# Altium footprint library Capacitor_THT.PcbLib: 378 footprints (part 13 of 24)
Each footprint in its own frame and in the unit in brackets; x right, y up, seen from the top. Pads: shape width x height; smd on the part's side, far side on the other; paste and mask are expansions set on the pad; w line width, h text height; cw(c..) or ccw(c..) is an arc to the next point about the centre after c.
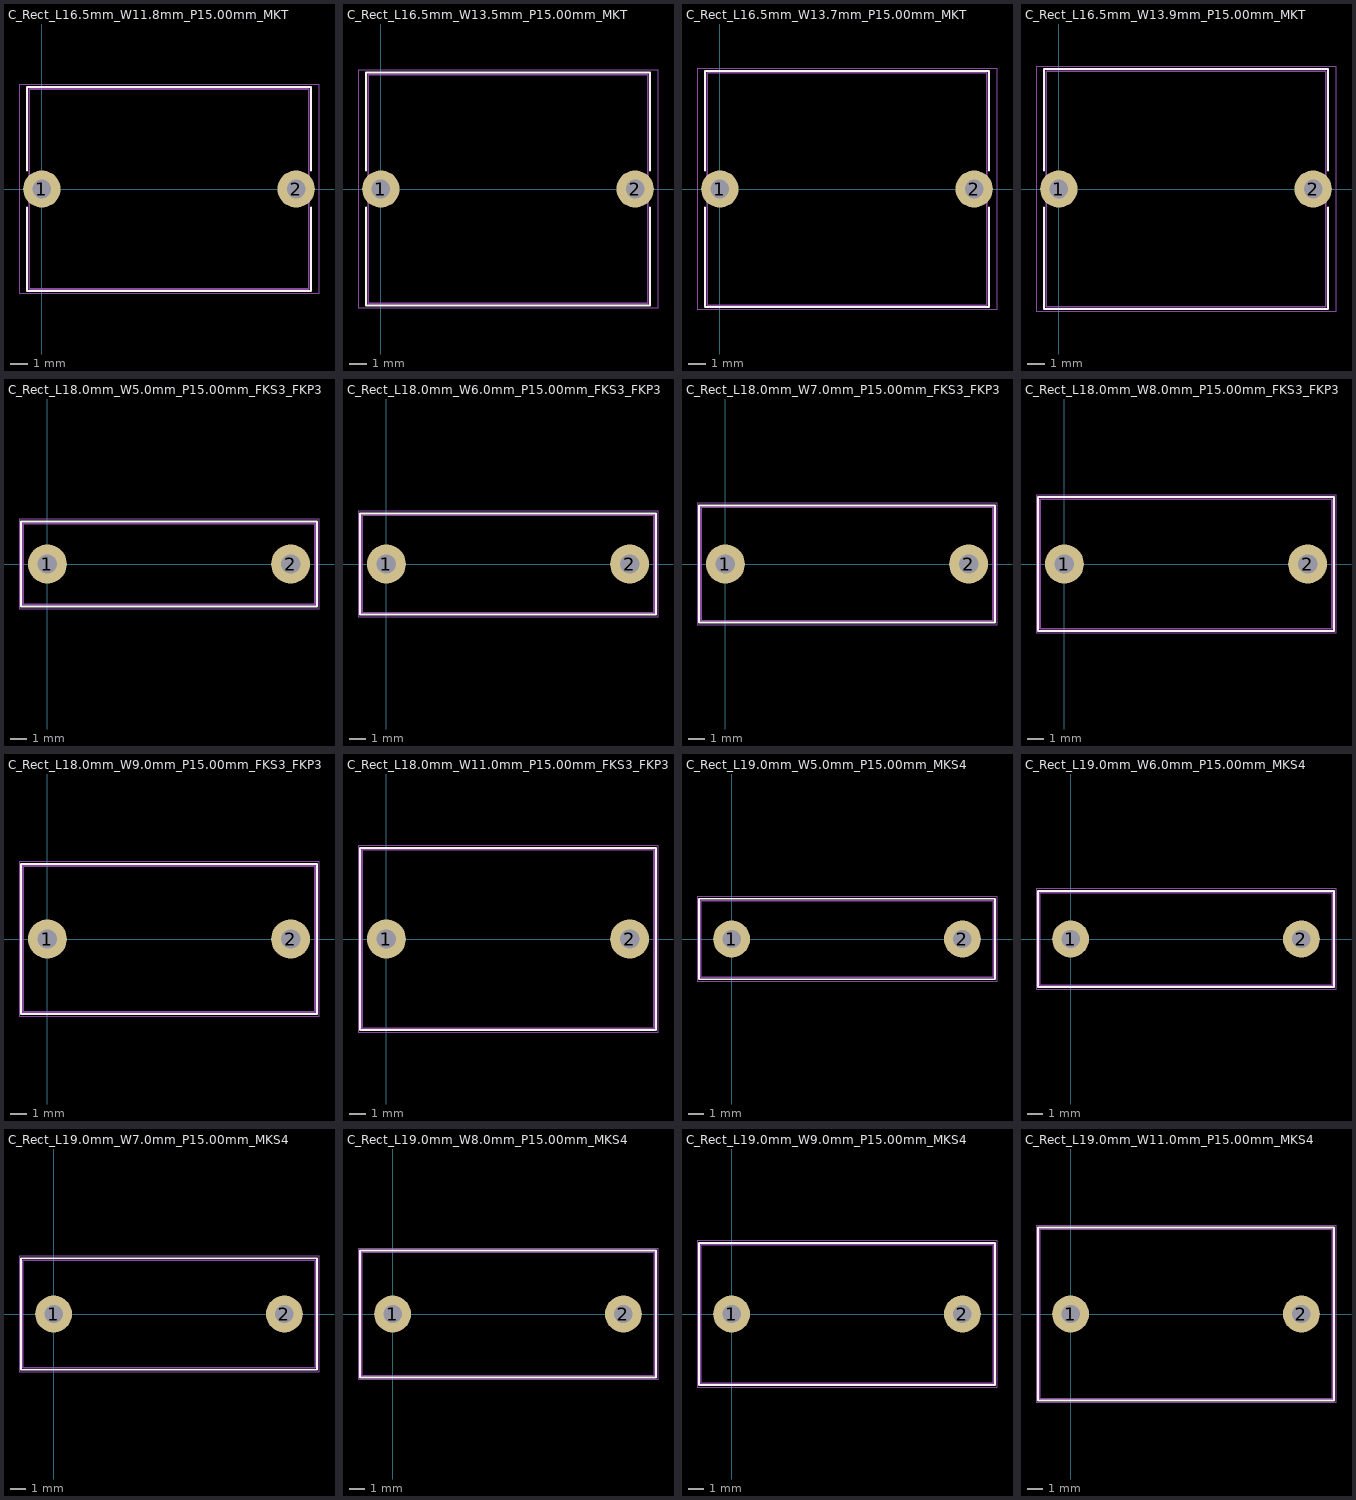
[diagram p12: the footprints below, top view; thin cyan lines are the x and y axes]

## C_Rect_L16.5mm_W11.8mm_P15.00mm_MKT [mm]
pads (2):
  round 2.2 hole 1.1: 1(0,0) 2(15,0)
F.SilkS:
  lines w0.12: -0.87,-1.104 -0.87,-6.02 15.87,-6.02 15.87,-1.104 ; -0.87,1.104 -0.87,6.02 15.87,6.02 15.87,1.104
F.CrtYd:
  lines w0.05: -1.35,-6.15 -1.35,6.15 16.35,6.15 16.35,-6.15 -1.35,-6.15
F.Fab:
  lines w0.1: -0.75,-5.9 15.75,-5.9 15.75,5.9 -0.75,5.9 -0.75,-5.9
  text "'.Designator'" at 3.453,-0.84 h1

## C_Rect_L16.5mm_W13.5mm_P15.00mm_MKT [mm]
pads (2):
  round 2.2 hole 1.1: 1(0,0) 2(15,0)
F.SilkS:
  lines w0.12: -0.87,-1.104 -0.87,-6.87 15.87,-6.87 15.87,-1.104 ; -0.87,1.104 -0.87,6.87 15.87,6.87 15.87,1.104
F.CrtYd:
  lines w0.05: -1.35,-7 -1.35,7 16.35,7 16.35,-7 -1.35,-7
F.Fab:
  lines w0.1: -0.75,-6.75 15.75,-6.75 15.75,6.75 -0.75,6.75 -0.75,-6.75
  text "'.Designator'" at 3.453,-0.84 h1

## C_Rect_L16.5mm_W13.7mm_P15.00mm_MKT [mm]
pads (2):
  round 2.2 hole 1.1: 1(0,0) 2(15,0)
F.SilkS:
  lines w0.12: -0.87,-1.104 -0.87,-6.97 15.87,-6.97 15.87,-1.104 ; -0.87,1.104 -0.87,6.97 15.87,6.97 15.87,1.104
F.CrtYd:
  lines w0.05: -1.35,-7.1 16.35,-7.1 16.35,7.1 -1.35,7.1 -1.35,-7.1
F.Fab:
  lines w0.1: -0.75,-6.85 -0.75,6.85 15.75,6.85 15.75,-6.85 -0.75,-6.85
  text "'.Designator'" at 3.453,-0.84 h1

## C_Rect_L16.5mm_W13.9mm_P15.00mm_MKT [mm]
pads (2):
  round 2.2 hole 1.1: 1(0,0) 2(15,0)
F.SilkS:
  lines w0.12: -0.87,-1.104 -0.87,-7.07 15.87,-7.07 15.87,-1.104 ; -0.87,1.104 -0.87,7.07 15.87,7.07 15.87,1.104
F.CrtYd:
  lines w0.05: -1.35,-7.2 -1.35,7.2 16.35,7.2 16.35,-7.2 -1.35,-7.2
F.Fab:
  lines w0.1: -0.75,-6.95 15.75,-6.95 15.75,6.95 -0.75,6.95 -0.75,-6.95
  text "'.Designator'" at 3.453,-0.84 h1

## C_Rect_L18.0mm_W5.0mm_P15.00mm_FKS3_FKP3 [mm]
pads (2):
  round 2.4 hole 1.2: 1(0,0) 2(15,0)
F.SilkS:
  lines w0.12: -1.62,-2.62 16.62,-2.62 16.62,2.62 -1.62,2.62 -1.62,-2.62
F.CrtYd:
  lines w0.05: -1.75,-2.75 -1.75,2.75 16.75,2.75 16.75,-2.75 -1.75,-2.75
F.Fab:
  lines w0.1: -1.5,-2.5 -1.5,2.5 16.5,2.5 16.5,-2.5 -1.5,-2.5
  text "'.Designator'" at 3.453,-0.84 h1

## C_Rect_L18.0mm_W6.0mm_P15.00mm_FKS3_FKP3 [mm]
pads (2):
  round 2.4 hole 1.2: 1(0,0) 2(15,0)
F.SilkS:
  lines w0.12: -1.62,-3.12 16.62,-3.12 16.62,3.12 -1.62,3.12 -1.62,-3.12
F.CrtYd:
  lines w0.05: -1.75,-3.25 -1.75,3.25 16.75,3.25 16.75,-3.25 -1.75,-3.25
F.Fab:
  lines w0.1: -1.5,-3 16.5,-3 16.5,3 -1.5,3 -1.5,-3
  text "'.Designator'" at 3.453,-0.84 h1

## C_Rect_L18.0mm_W7.0mm_P15.00mm_FKS3_FKP3 [mm]
pads (2):
  round 2.4 hole 1.2: 1(0,0) 2(15,0)
F.SilkS:
  lines w0.12: -1.62,-3.62 16.62,-3.62 16.62,3.62 -1.62,3.62 -1.62,-3.62
F.CrtYd:
  lines w0.05: -1.75,-3.75 -1.75,3.75 16.75,3.75 16.75,-3.75 -1.75,-3.75
F.Fab:
  lines w0.1: -1.5,-3.5 16.5,-3.5 16.5,3.5 -1.5,3.5 -1.5,-3.5
  text "'.Designator'" at 3.453,-0.84 h1

## C_Rect_L18.0mm_W8.0mm_P15.00mm_FKS3_FKP3 [mm]
pads (2):
  round 2.4 hole 1.2: 1(0,0) 2(15,0)
F.SilkS:
  lines w0.12: -1.62,-4.12 -1.62,4.12 16.62,4.12 16.62,-4.12 -1.62,-4.12
F.CrtYd:
  lines w0.05: -1.75,-4.25 16.75,-4.25 16.75,4.25 -1.75,4.25 -1.75,-4.25
F.Fab:
  lines w0.1: -1.5,-4 -1.5,4 16.5,4 16.5,-4 -1.5,-4
  text "'.Designator'" at 3.453,-0.84 h1

## C_Rect_L18.0mm_W9.0mm_P15.00mm_FKS3_FKP3 [mm]
pads (2):
  round 2.4 hole 1.2: 1(0,0) 2(15,0)
F.SilkS:
  lines w0.12: -1.62,-4.62 -1.62,4.62 16.62,4.62 16.62,-4.62 -1.62,-4.62
F.CrtYd:
  lines w0.05: -1.75,-4.75 -1.75,4.75 16.75,4.75 16.75,-4.75 -1.75,-4.75
F.Fab:
  lines w0.1: -1.5,-4.5 -1.5,4.5 16.5,4.5 16.5,-4.5 -1.5,-4.5
  text "'.Designator'" at 3.453,-0.84 h1

## C_Rect_L18.0mm_W11.0mm_P15.00mm_FKS3_FKP3 [mm]
pads (2):
  round 2.4 hole 1.2: 1(0,0) 2(15,0)
F.SilkS:
  lines w0.12: -1.62,-5.62 -1.62,5.62 16.62,5.62 16.62,-5.62 -1.62,-5.62
F.CrtYd:
  lines w0.05: -1.75,-5.75 -1.75,5.75 16.75,5.75 16.75,-5.75 -1.75,-5.75
F.Fab:
  lines w0.1: -1.5,-5.5 -1.5,5.5 16.5,5.5 16.5,-5.5 -1.5,-5.5
  text "'.Designator'" at 3.453,-0.84 h1

## C_Rect_L19.0mm_W5.0mm_P15.00mm_MKS4 [mm]
pads (2):
  round 2.4 hole 1.2: 1(0,0) 2(15,0)
F.SilkS:
  lines w0.12: -2.12,-2.62 17.12,-2.62 17.12,2.62 -2.12,2.62 -2.12,-2.62
F.CrtYd:
  lines w0.05: -2.25,-2.75 17.25,-2.75 17.25,2.75 -2.25,2.75 -2.25,-2.75
F.Fab:
  lines w0.1: -2,-2.5 17,-2.5 17,2.5 -2,2.5 -2,-2.5
  text "'.Designator'" at 3.453,-0.84 h1

## C_Rect_L19.0mm_W6.0mm_P15.00mm_MKS4 [mm]
pads (2):
  round 2.4 hole 1.2: 1(0,0) 2(15,0)
F.SilkS:
  lines w0.12: -2.12,-3.12 -2.12,3.12 17.12,3.12 17.12,-3.12 -2.12,-3.12
F.CrtYd:
  lines w0.05: -2.25,-3.25 17.25,-3.25 17.25,3.25 -2.25,3.25 -2.25,-3.25
F.Fab:
  lines w0.1: -2,-3 17,-3 17,3 -2,3 -2,-3
  text "'.Designator'" at 3.453,-0.84 h1

## C_Rect_L19.0mm_W7.0mm_P15.00mm_MKS4 [mm]
pads (2):
  round 2.4 hole 1.2: 1(0,0) 2(15,0)
F.SilkS:
  lines w0.12: -2.12,-3.62 -2.12,3.62 17.12,3.62 17.12,-3.62 -2.12,-3.62
F.CrtYd:
  lines w0.05: -2.25,-3.75 17.25,-3.75 17.25,3.75 -2.25,3.75 -2.25,-3.75
F.Fab:
  lines w0.1: -2,-3.5 -2,3.5 17,3.5 17,-3.5 -2,-3.5
  text "'.Designator'" at 3.453,-0.84 h1

## C_Rect_L19.0mm_W8.0mm_P15.00mm_MKS4 [mm]
pads (2):
  round 2.4 hole 1.2: 1(0,0) 2(15,0)
F.SilkS:
  lines w0.12: -2.12,-4.12 -2.12,4.12 17.12,4.12 17.12,-4.12 -2.12,-4.12
F.CrtYd:
  lines w0.05: -2.25,-4.25 -2.25,4.25 17.25,4.25 17.25,-4.25 -2.25,-4.25
F.Fab:
  lines w0.1: -2,-4 17,-4 17,4 -2,4 -2,-4
  text "'.Designator'" at 3.453,-0.84 h1

## C_Rect_L19.0mm_W9.0mm_P15.00mm_MKS4 [mm]
pads (2):
  round 2.4 hole 1.2: 1(0,0) 2(15,0)
F.SilkS:
  lines w0.12: -2.12,-4.62 -2.12,4.62 17.12,4.62 17.12,-4.62 -2.12,-4.62
F.CrtYd:
  lines w0.05: -2.25,-4.75 -2.25,4.75 17.25,4.75 17.25,-4.75 -2.25,-4.75
F.Fab:
  lines w0.1: -2,-4.5 -2,4.5 17,4.5 17,-4.5 -2,-4.5
  text "'.Designator'" at 3.453,-0.84 h1

## C_Rect_L19.0mm_W11.0mm_P15.00mm_MKS4 [mm]
pads (2):
  round 2.4 hole 1.2: 1(0,0) 2(15,0)
F.SilkS:
  lines w0.12: -2.12,-5.62 -2.12,5.62 17.12,5.62 17.12,-5.62 -2.12,-5.62
F.CrtYd:
  lines w0.05: -2.25,-5.75 17.25,-5.75 17.25,5.75 -2.25,5.75 -2.25,-5.75
F.Fab:
  lines w0.1: -2,-5.5 17,-5.5 17,5.5 -2,5.5 -2,-5.5
  text "'.Designator'" at 3.453,-0.84 h1